# Altium schematic symbol library SOT-23 BAV99 A7W.Schlib: 1 symbol
Pins are listed as number, name and electrical type; pins without a type are passive.

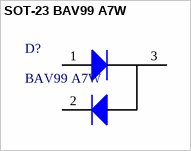
[diagram p0: symbol SOT-23 BAV99 A7W]

## SOT-23 BAV99 A7W
designator D?, comment BAV99 A7W
开关二极管
footprint SOT-23(SOT-23-3)
pins: 1 A, 2 A, 3 K